# Altium schematic symbol library S25FL064P_FlashMemory.SchLib: 1 symbol
Pins are listed as number, name and electrical type; pins without a type are passive.

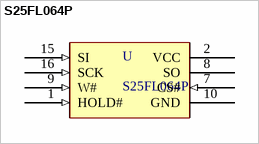
[diagram p0: symbol S25FL064P]

## S25FL064P
designator U
S25FL064P 64 Mb Flash Memory
pins: 1 HOLD# (in), 2 VCC (power), 7 CS# (in), 8 SO (power), 9 W# (in), 10 GND (power), 15 SI (in), 16 SCK (in)